# Altium integrated library SR201C104KARTR.IntLib: 1 symbol
Pins are listed as number, name and electrical type; pins without a type are passive.

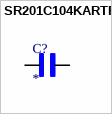
[diagram p0: symbol SR201C104KARTR]

## SR201C104KARTR
designator C?
SR 100nF Ceramic Multilayer Cap,100V dc,+125C,X7R Dielectric,+/-10%,Through Hole | AVX SR201C104KARTR; MF: KYOCERA AVX; SnapEDA_Link: https://www.snapeda.com/parts/SR201C104KARTR/Kyocera/view-part/?ref=snap; Package: None; Value: *; MP: SR201C104KARTR; Check_prices: https://www.snapeda.com/parts/SR201C104KARTR/Kyocera/view-part/?ref=eda
footprint CAPRR254W50L508T317H508
pins: 1, 2